# Altium footprint library MEMRTCCLAVIER.PcbLib: 9 footprints
Each footprint in its own frame and in the unit in brackets; x right, y up, seen from the top. Pads: shape width x height; smd on the part's side, far side on the other; paste and mask are expansions set on the pad; w line width, h text height; cw(c..) or ccw(c..) is an arc to the next point about the centre after c.
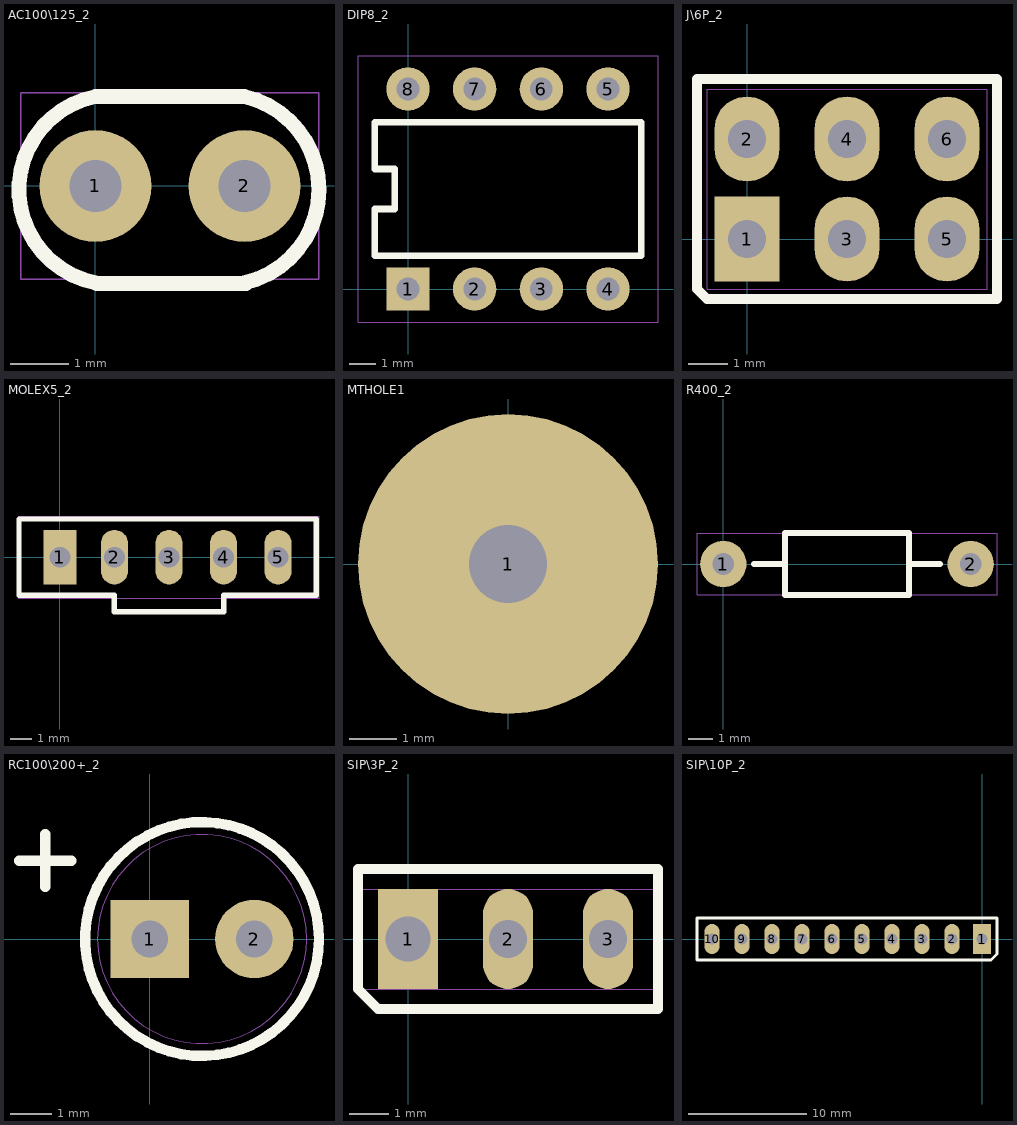
[diagram p0: the footprints below, top view; thin cyan lines are the x and y axes]

## AC100\125_2 [mil]
height 1
pads (2):
  round 75 / inner round 60 / far side round 75 hole 35: 1(0,0) 2(100,0)
Top Overlay:
  lines w10: 0,-65 cw(c12.5,-2.5) 0,60 100,60 cw(c85.93,-2.5) 100,-65 ; 1,-65.5 101,-65.5
Mechanical 1:
  lines w1: -50,-62.5 -50,62.5 150,62.5 150,-62.5 -50,-62.5

## DIP8_2 [mil]
height 1
pads (8):
  rect 65x65 / inner round 60 / far side rect 65x65 hole 34: 1(0,0)
  round 65 / inner round 60 / far side round 65 hole 34: 2(100,0) 3(200,0) 4(300,0) 5(300,300) 6(200,300) 7(100,300) 8(0,300)
Top Overlay:
  lines w10: -50,50 350,50 350,250 -50,250 -50,180 -20,180 -20,120 -50,120 -50,50
Mechanical 1:
  lines w1: -75,-50 -75,350 375,350 375,-50 -75,-50

## J\6P_2 [mil]
height 1
pads (6):
  rect 65x85 / inner round 60 / far side rect 65x85 hole 38: 1(0,0)
  oval 65x85 / inner round 60 / far side oval 65x85 hole 38: 2(0,100) 3(100,0) 4(100,100) 5(200,0) 6(200,100)
Top Overlay:
  lines w10: -50,-50 -50,160 250,160 250,-60 -40,-60 -50,-50
Mechanical 1:
  lines w1: -40,-50 -40,150 240,150 240,-50 -40,-50

## MOLEX5_2 [mil]
height 1
pads (5):
  rect 60x100 / inner round 60 / far side rect 60x100 hole 38: 1(0,0)
  oval 50x100 / inner round 60 / far side oval 50x100 hole 38: 2(100,0) 3(200,0) 4(300,0) 5(400,0)
Top Overlay:
  lines w10: -75,-70 -75,70 470,70 470,-70 300,-70 300,-100 100,-100 100,-70 -75,-70
Mechanical 1:
  lines w1: -75,-75 -75,75 475,75 475,-75 -75,-75

## MTHOLE1 [mil]
height 1
pads (1):
  round 250 / inner round 60 / far side round 250 hole 65: 1(0,0)
Mechanical 1:
  lines w1: -70,-70 70,-70 70,70 -70,70 -70,-70

## R400_2 [mil]
height 1
pads (2):
  round 75 / inner round 60 / far side round 75 hole 35: 1(0,0) 2(400,0)
Top Overlay:
  lines w10: 50,0 100,0 ; 300,0 350,0 ; 100,-50 100,50 300,50 300,-50 100,-50
Mechanical 1:
  lines w1: -42.5,-50 -42.5,50 442.5,50 442.5,-50 -42.5,-50

## RC100\200+_2 [mil]
height 1
pads (2):
  rect 75x75 / inner round 60 / far side rect 75x75 hole 35: 1(0,0)
  round 75 / inner round 60 / far side round 75 hole 35: 2(100,0)
Top Overlay:
  circle w10: c50,0 r111.8
  lines w10: -125,75 -75,75 ; -100,50 -100,100
Mechanical 1:
  circle w1: c50,0 r100

## SIP\3P_2 [mil]
height 1
pads (3):
  rect 60x100 / inner round 60 / far side rect 60x100 hole 45: 1(0,0)
  oval 50x100 / inner round 60 / far side oval 50x100 hole 38: 2(100,0) 3(200,0)
Top Overlay:
  lines w10: -50,-50 -30,-70 250,-70 250,70 -50,70 -50,-50
Mechanical 1:
  lines w1: -50,-50 -50,50 250,50 250,-50 -50,-50

## SIP\10P_2 [mil]
height 1
pads (10):
  rect 60x100 / inner round 60 / far side rect 60x100 hole 38: 1(0,0)
  oval 50x100 / inner round 60 / far side oval 50x100 hole 38: 2(-100,0) 3(-200,0) 4(-300,0) 5(-400,0) 6(-500,0) 7(-600,0) 8(-700,0) 9(-800,0) 10(-900,0)
Top Overlay:
  lines w10: -950,-70 -950,70 50,70 50,-50 30,-70 -950,-70
Mechanical 1:
  lines w1: -950,-50 -950,50 ; 50,-50 50,50